# EAGLE library part SENSOR/MPU9250 (library MyParts)
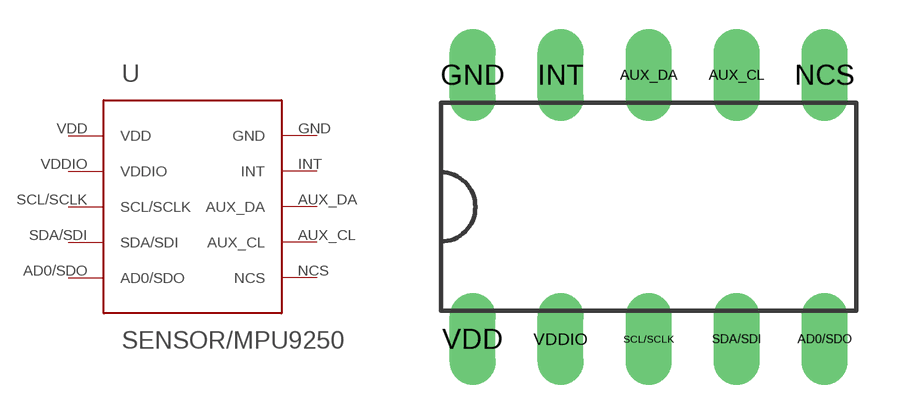
[diagram p5: symbol with the pads of SENSOR/MPU9250; footprint SENSOR/MPU9250]

Designator prefix -

## SENSOR/MPU9250  [SENSOR/MPU9250]
AD0/SDO  AD0/SDO
AUX_CL  AUX_CL
AUX_DA  AUX_DA
GND  GND
INT  INT
NCS  NCS
SCL/SCLK  SCL/SCLK
SDA/SDI  SDA/SDI
VDD  VDD
VDDIO  VDDIO

## Footprint SENSOR/MPU9250 (pad centres in mm)
drill 0.813 long: AD0/SDO 5.08,-3.81; AUX_CL 2.54,3.81; AUX_DA 0,3.81; GND -5.08,3.81; INT -2.54,3.81; NCS 5.08,3.81; SCL/SCLK 0,-3.81; SDA/SDI 2.54,-3.81; VDD -5.08,-3.81; VDDIO -2.54,-3.81